# Altium footprint library JCULibrary.PcbLib: 10 footprints
Each footprint in its own frame and in the unit in brackets; x right, y up, seen from the top. Pads: shape width x height; smd on the part's side, far side on the other; paste and mask are expansions set on the pad; w line width, h text height; cw(c..) or ccw(c..) is an arc to the next point about the centre after c.
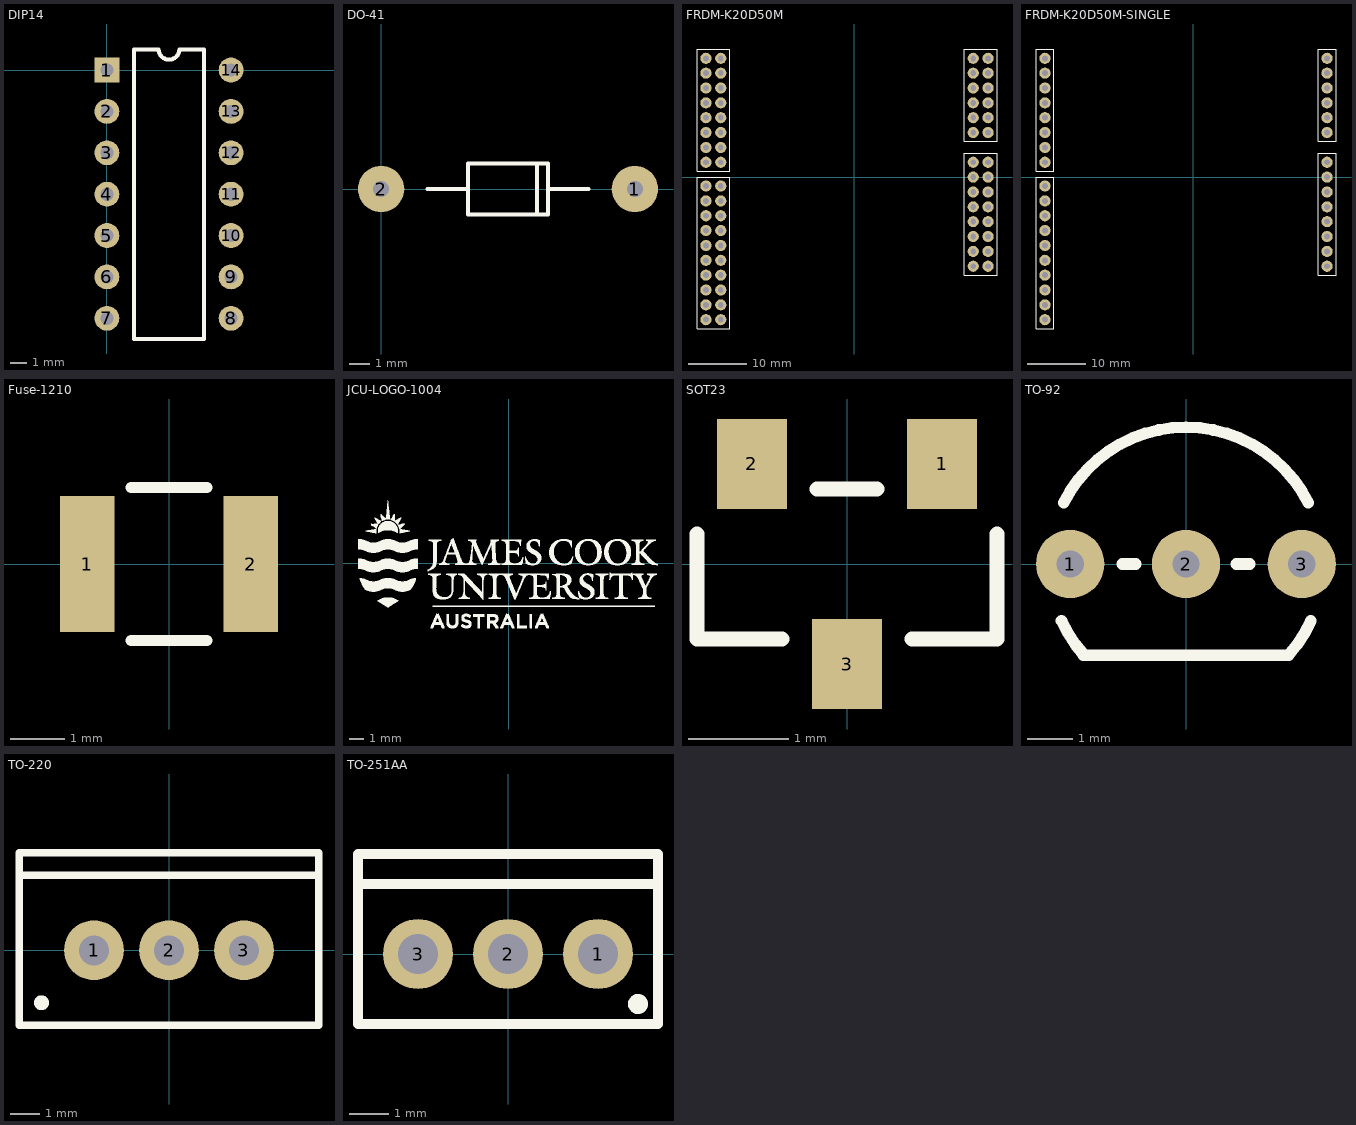
[diagram p0: the footprints below, top view; thin cyan lines are the x and y axes]

## DIP14 [mil] "14 Pin Dual In-Line Package"
pads (14):
  rect 60x60 hole 32: 1(0,0)
  round 60 hole 32: 2(0,-100) 3(0,-200) 4(0,-300) 5(0,-400) 6(0,-500) 7(0,-600) 8(300,-600) 9(300,-500) 10(300,-400) 11(300,-300) 12(300,-200) 13(300,-100) 14(300,0)
Top Overlay:
  lines w10: 65,-650 65,50 125,50 ccw(c150,50) 175,50 235,50 235,-650 65,-650

## DO-41 [mm] "Diode Outline 41"
pads (2):
  round 2.3 hole 0.8: 1(12.6,0) 2(0,0)
Top Overlay:
  lines w0.2: 2.3,0 4.325,0 ; 7.746,1.143 7.747,-1.27 ; 8.275,0 10.3,0 ; 4.325,0 4.325,-1.27 8.275,-1.27 8.275,1.27 4.325,1.27 4.325,0

## FRDM-K20D50M [mil] "FRDM-K20D50M Standard"
height 590.55
pads (64):
  round 75 hole 40: J2_1(-900,-60) J2_2(-1000,-60) J2_3(-900,-160) J2_4(-1000,-160) J2_5(-900,-260) J2_6(-1000,-260) J2_7(-900,-360) J2_8(-1000,-360) J2_9(-900,-460) J2_10(-1000,-460) J2_11(-900,-560) J2_12(-1000,-560) J2_13(-900,-660) J2_14(-1000,-660) J2_15(-900,-760) J2_16(-1000,-760) J2_17(-900,-860) J2_18(-1000,-860) J2_19(-900,-960) J2_20(-1000,-960) J9_1(800,-600) J9_2(900,-600) J9_3(800,-500) J9_4(900,-500) J9_5(800,-400) J9_6(900,-400) J9_7(800,-300) J9_8(900,-300) J9_9(800,-200) J9_10(900,-200) J9_11(800,-100) J9_12(900,-100) J9_13(800,0) J9_14(900,0) J9_15(800,100) J9_16(900,100) J10_1(800,300) J10_2(900,300) J10_3(800,400) J10_4(900,400) J10_5(800,500) J10_6(900,500) J10_7(800,600) J10_8(900,600) J10_9(800,700) J10_10(900,700) J10_11(800,800) J10_12(900,800) J19_1(-900,800) J19_2(-1000,800) J19_3(-900,700) J19_4(-1000,700) J19_5(-900,600) J19_6(-1000,600) J19_7(-900,500) J19_8(-1000,500) J19_9(-900,400) J19_10(-1000,400) J19_11(-900,300) J19_12(-1000,300) J19_13(-900,200) J19_14(-1000,200) J19_15(-900,100) J19_16(-1000,100)
Top Overlay:
  lines w6: -1060,-1020 -840,-1020 -840,0 -1060,0 -1060,-1020 ; -1060,40 -840,40 -840,860 -1060,860 -1060,40 ; 740,-660 960,-660 960,160 740,160 740,-660 ; 740,240 960,240 960,860 740,860 740,240
3D body: height 590.55, standoff 0, extent 740.02,240.02 959.98,859.98
3D body: height 590.55, standoff 0, extent 740.02,-659.98 959.98,159.98
3D body: height 590.55, standoff 0, extent -1059.98,40.02 -840.02,859.98
3D body: height 590.55, standoff 0, extent -1059.98,-1019.98 -840.02,-0.02

## FRDM-K20D50M-SINGLE [mil] "FRDM-K20D50M SINGLE"
height 590.55
pads (32):
  round 75 hole 40: J2_2(-1000,-60) J2_4(-1000,-160) J2_6(-1000,-260) J2_8(-1000,-360) J2_10(-1000,-460) J2_12(-1000,-560) J2_14(-1000,-660) J2_16(-1000,-760) J2_18(-1000,-860) J2_20(-1000,-960) J9_2(900,-600) J9_4(900,-500) J9_6(900,-400) J9_8(900,-300) J9_10(900,-200) J9_12(900,-100) J9_14(900,0) J9_16(900,100) J10_2(900,300) J10_4(900,400) J10_6(900,500) J10_8(900,600) J10_10(900,700) J10_12(900,800) J19_2(-1000,800) J19_4(-1000,700) J19_6(-1000,600) J19_8(-1000,500) J19_10(-1000,400) J19_12(-1000,300) J19_14(-1000,200) J19_16(-1000,100)
Top Overlay:
  lines w6: -1060,-1020 -940,-1020 -940,0 -1060,0 -1060,-1020 ; -1060,40 -940,40 -940,860 -1060,860 -1060,40 ; 840,-660 960,-660 960,160 840,160 840,-660 ; 840,240 960,240 960,860 840,860 840,240
3D body: height 590.55, standoff 0, extent 840.02,240.02 959.98,859.98
3D body: height 590.55, standoff 0, extent 840.02,-659.98 959.98,159.98
3D body: height 590.55, standoff 0, extent -1059.98,40.02 -940.02,859.98
3D body: height 590.55, standoff 0, extent -1059.98,-1019.98 -940.02,-0.02

## Fuse-1210 [mm] "Polyfuse 1210 SMD"
pads (2):
  rect 1x2.5 smd: 1(-1.5,0) 2(1.5,0)
Top Overlay:
  lines w0.2: -0.7,-1.4 0.7,-1.4 ; -0.7,1.4 0.7,1.4

## JCU-LOGO-1004 [mil] "James Cook University Logo 1.0\" x 0.4\""
Top Overlay:
  drawing of 6588 lines, arcs and shapes, not listed

## SOT23 [mm] "Small-Outline Transistor 2x3"
pads (3):
  rect 0.7x0.9 smd: 1(0.95,1) 2(-0.95,1) 3(0,-1)
Top Overlay:
  lines w0.152: -1.5,0.3 -1.5,-0.75 -0.65,-0.75 ; -0.3,0.75 0.3,0.75 ; 0.65,-0.75 1.5,-0.75 1.5,0.3

## TO-92 [mm] "Transistor Outline 92"
pads (3):
  round 1.5 hole 0.6: 1(-2.54,0) 2(0,0) 3(2.54,0)
Top Overlay:
  lines w0.254: -2.731,-1.241 ccw(c0,0) -2.242,-1.993 ; -2.683,1.342 cw(c0,0) 2.683,1.342 ; -2.25,-2 2.25,-2 ccw(c0,0) 2.741,-1.246 ; -1.4,0 -1.1,0 ; 1.1,0 1.4,0

## TO-220 [mil] "Transistor Outline 220"
pads (3):
  round 80 hole 40: 1(-100,0) 2(0,0) 3(100,0)
Top Overlay:
  circle w10: c-170,-70 r5
  lines w10: -200,100 -200,-100 200,-100 200,100 ; -200,100 200,100 ; -200,100 -200,130 200,130 200,100

## TO-251AA [mil] "Transistor Outline 251AA"
pads (3):
  round 70 hole 40: 1(90,0) 2(0,0) 3(-90,0)
Top Overlay:
  circle w10: c130,-50 r5
  lines w10: -150,70 150,70 ; -150,-70 -150,100 150,100 150,47 150,-70 -150,-70